# Altium footprint library Choke.PcbLib: 28 footprints (part 1 of 2)
Each footprint in its own frame and in the unit in brackets; x right, y up, seen from the top. Pads: shape width x height; smd on the part's side, far side on the other; paste and mask are expansions set on the pad; w line width, h text height; cw(c..) or ccw(c..) is an arc to the next point about the centre after c.
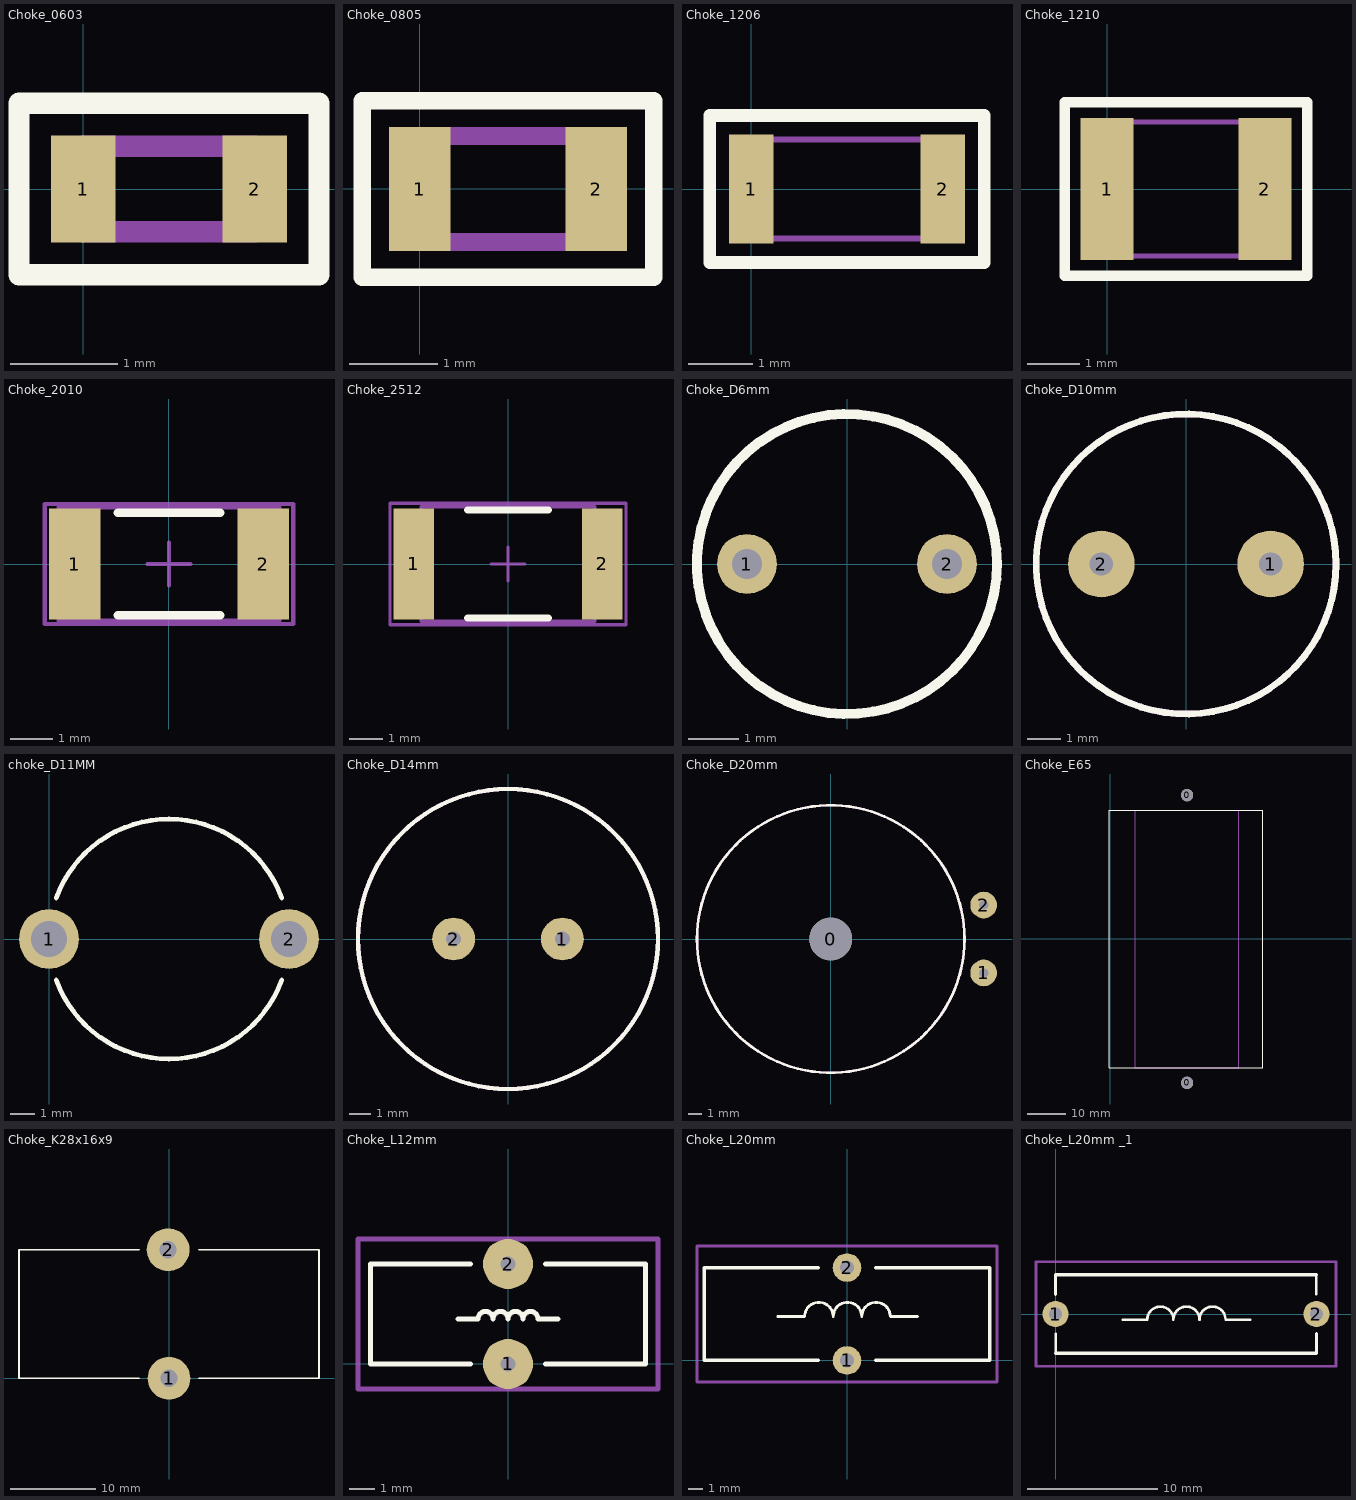
[diagram p0: the footprints below, top view; thin cyan lines are the x and y axes]

## Choke_0603 [mm] "Chip Resistor, Body 2.0x1.2mm, IPC Medium Density"
height 0.7
pads (2):
  rect 0.6x1 smd: 1(0,0) 2(1.6,0)
Top Overlay:
  lines w0.2: -0.6,-0.8 -0.6,0.8 2.2,0.8 2.2,-0.8 -0.6,-0.8
TopAssy:
  lines w0.2: 0,-0.4 0,0.4 1.6,0.4 1.6,-0.4 0,-0.4
3D body "User Library-INDC1608X___.STEP": height 1, standoff 0, extent 0,-0.4 1.6,0.4

## Choke_0805 [mm] "Chip Resistor, Body 2.0x1.2mm, IPC Medium Density"
height 0.7
pads (2):
  rect 0.7x1.4 smd: 1(0,0) 2(2,0)
Top Overlay:
  lines w0.2: -0.65,-1 -0.65,1 2.65,1 2.65,-1 -0.65,-1
TopAssy:
  lines w0.2: 0,-0.6 0,0.6 2,0.6 2,-0.6 0,-0.6
3D body "INDC2012X95N EIA 0805.step": height 0.95, standoff 0, extent 0,-0.6 2,0.6

## Choke_1206 [mm] "Chip Resistor, Body 3.2x1.6mm"
height 1.3
pads (2):
  rect 0.7x1.7 smd: 1(0,0) 2(3,0)
Top Overlay:
  lines w0.2: -0.65,-1.15 3.65,-1.15 3.65,1.15 -0.65,1.15 -0.65,-1.15
TopAssy:
  lines w0.1: 0,-0.775 3,-0.775 3,0.775 0,0.775 0,-0.775
3D body "INDC3216X130N EIA 1206.step": height 1.3, standoff 0, extent -0.1,-0.8 3.1,0.8

## Choke_1210 [mm] "Chip Resistor, Body 3.2x2.5mm"
height 0.9
pads (2):
  rect 1x2.7 smd: 1(0,0) 2(3,0)
Top Overlay:
  lines w0.2: -0.8,-1.65 -0.8,1.65 3.8,1.65 3.8,-1.65 -0.8,-1.65
TopAssy:
  lines w0.1: 0,-1.275 3,-1.275 3,1.275 0,1.275 0,-1.275
3D body "INDC3225X135N EIA 1210.step": height 1.35, standoff 0, extent -0.1,-1.25 3.1,1.25

## Choke_2010 [mm] "Chip Resistor, Body 5.0x2.5mm"
height 0.9
pads (2):
  rect 1.2x2.6 smd: 1(-2.2,0) 2(2.2,0)
Top Overlay:
  lines w0.2: -1.2,-1.2 1.2,-1.2 ; -1.2,1.2 1.2,1.2
Mechanical 13:
  lines w0.1: -2.575,-1.325 -2.575,1.325 2.575,1.325 2.575,-1.325 -2.575,-1.325
Mechanical 15:
  lines w0.1: -0.5,0 0.5,0 ; 0,-0.5 0,0.5 ; -2.9,-1.4 -2.9,1.4 2.9,1.4 2.9,-1.4 -2.9,-1.4
3D body: height 0.9, standoff 0, extent -2.575,-1.325 2.575,1.325

## Choke_2512 [mm] "Chip Resistor, Body 6.4x3.2mm, IPC High Density"
height 0.9
pads (2):
  rect 1.2x3.3 smd: 1(-2.8,0) 2(2.8,0)
Top Overlay:
  lines w0.2: -1.2,-1.6 1.2,-1.6 ; -1.2,1.6 1.2,1.6
Mechanical 13:
  lines w0.1: -2.575,-1.7 -2.575,1.7 2.575,1.7 2.575,-1.7 -2.575,-1.7
Mechanical 15:
  lines w0.1: -0.5,0 0.5,0 ; 0,-0.5 0,0.5 ; -3.5,-1.8 -3.5,1.8 3.5,1.8 3.5,-1.8 -3.5,-1.8
3D body: height 0.9, standoff 0, extent -3,-1.6 3,1.6

## Choke_D6mm [mm]
pads (2):
  round 1.2 hole 0.6: 1(-2,0) 2(2,0)
Top Overlay:
  circle w0.2: c0,0 r3
3D body "User Library-CD43NP.STEP": height 3.5, standoff 0, extent -2.4,-2.15 2.4,2.15

## Choke_D10mm [mm]
pads (2):
  round 2 hole 0.7: 1(2.54,0) 2(-2.54,0)
Top Overlay:
  circle w0.2: c0,0 r4.5
Mechanical 15:
  circle w0.2: c0,0 r4.5
3D body "User Library-bobina 330uH.STEP": height 13, standoff -4, extent -4.5,-4.5 4.5,4.5

## choke_D11MM [mm]
pads (2):
  round 2.5 hole 1.5: 1(0,0) 2(10,0)
Top Overlay:
  lines w0.2: 0.302,-1.71 ccw(c5,0) 9.698,-1.71 ; 0.302,1.71 cw(c5,0) 9.698,1.71
3D body: height 30, standoff 0, extent 0.001,-4.999 9.999,4.999

## Choke_D14mm [mm]
pads (2):
  round 2 hole 0.7: 1(2.54,0) 2(-2.54,0)
Top Overlay:
  circle w0.2: c0,0 r7
Mechanical 15:
  circle w0.2: c0,0 r7
3D body "User Library-bobina 330uH.STEP": height 13, standoff -4, extent -4.5,-4.5 4.5,4.5

## Choke_D20mm [mm]
pads (3):
  round 3.2 hole 3.2: 0(0,0)
  round 2 hole 0.7: 1(11.43,-2.54) 2(11.43,2.54)
Top Overlay:
  circle w0.2: c0,0 r10
TopAssy:
  circle w0.2: c0,0 r10
3D body: height 10, standoff 0, extent -9.921,-9.98 10,9.98

## Choke_E65 [mm]
pads (2):
  round 3.2 hole 3.2: 0(20,-37.5) 0(20,37.5)
Top Overlay:
  lines w0.254: -0.325,-33.5 39.75,-33.5 39.75,33.5 -0.325,33.5 -0.325,-33.5
TopAssy:
  lines w0.2: 6.5,33.5 6.5,-33.5 33.5,-33.5 33.5,33.5
3D body: height 70, standoff 65, extent 18.001,35.501 22,39.499
3D body: height 70, standoff 65, extent 18.001,-39.499 22,-35.501
3D body "User Library-Male - Female Hexagonal Threaded Standoffs; length 60mm; key 5mm; M3x10mm and M3x6mm.STEP": height 60, standoff -6, extent 17.113,35 22.887,40
3D body "User Library-Male - Female Hexagonal Threaded Standoffs; length 60mm; key 5mm; M3x10mm and M3x6mm.STEP": height 60, standoff -6, extent 17.113,-40 22.887,-35
3D body: height 56, standoff 10, extent 1.575,-16.6 38.425,16.6
3D body "User Library-e65-27.STEP": height 32.8, standoff 0, extent 6.3,-32.5 33.7,32.5
3D body "User Library-e65-27.STEP": height 65, standoff 32.2, extent 6.3,-32.5 33.7,32.5
3D body "SW3dPS-allen m3XX20 v2.STEP": height 73.51, standoff 50, extent 17.25,34.75 22.75,40.25
3D body "SW3dPS-allen m3XX20 v2.STEP": height 73.51, standoff 50, extent 17.25,-40.25 22.75,-34.75

## Choke_K28x16x9 [mm]
pads (2):
  round 5 hole 2: 1(0,0) 2(-0.1,15)
Top Overlay:
  lines w0.2: -3.5,0 -17.5,0 -17.5,15 -3.5,15 ; 3.5,0 17.5,0 17.5,15 3.5,15

## Choke_L12mm [mm]
pads (2):
  round 2 hole 0.6: 1(0,0) 2(0,4)
Top Overlay:
  lines w0.2: -2,1.8 -1.2,1.8 cw(c-0.9,1.8) -0.6,1.8 cw(c-0.3,1.8) 0,1.8 cw(c0.3,1.8) 0.6,1.8 cw(c0.9,1.8) 1.2,1.8 2,1.8 ; -1.5,0 -5.5,0 -5.5,4 -1.5,4 ; 1.5,0 5.5,0 5.5,4 1.5,4
Mechanical 15:
  lines w0.2: -6,-1 6,-1 6,5 -6,5 -6,-1

## Choke_L20mm [mm]
pads (2):
  round 2 hole 1: 1(0,0) 2(0,6.5)
Top Overlay:
  lines w0.2: -4.85,3.07 -2.967,3.07 cw(c-1.967,3.07) -0.967,3.07 cw(c0.033,3.07) 1.033,3.07 cw(c2.033,3.07) 3.033,3.07 ; 3.05,3.07 4.933,3.07
  lines w0.254: -2,0 -10,0 -10,6.5 -2,6.5 ; 2,0 10,0 10,6.5 2,6.5
Mechanical 15:
  lines w0.2: -10.5,-1.5 -10.5,8 10.5,8 10.5,-1.5 -10.5,-1.5

## Choke_L20mm _1 [mm]
pads (2):
  round 2 hole 1: 1(0,0) 2(20,0)
Top Overlay:
  lines w0.2: 0,-3 0,-1.5 ; 5.15,-0.43 7.033,-0.43 cw(c8.033,-0.43) 9.033,-0.43 cw(c10.033,-0.43) 11.033,-0.43 cw(c12.033,-0.43) 13.033,-0.43 ; 13.05,-0.43 14.933,-0.43 ; 20,1.5 20,3
  lines w0.254: 0,-3 20,-3 20,-1.5 ; 0,1.5 0,3 20,3
Mechanical 15:
  lines w0.2: -1.5,-4 21.5,-4 21.5,4 -1.5,4 -1.5,-4